# EAGLE library part OPAMP (library QuantumOptics)
Op Amp, generic, pick the right package.
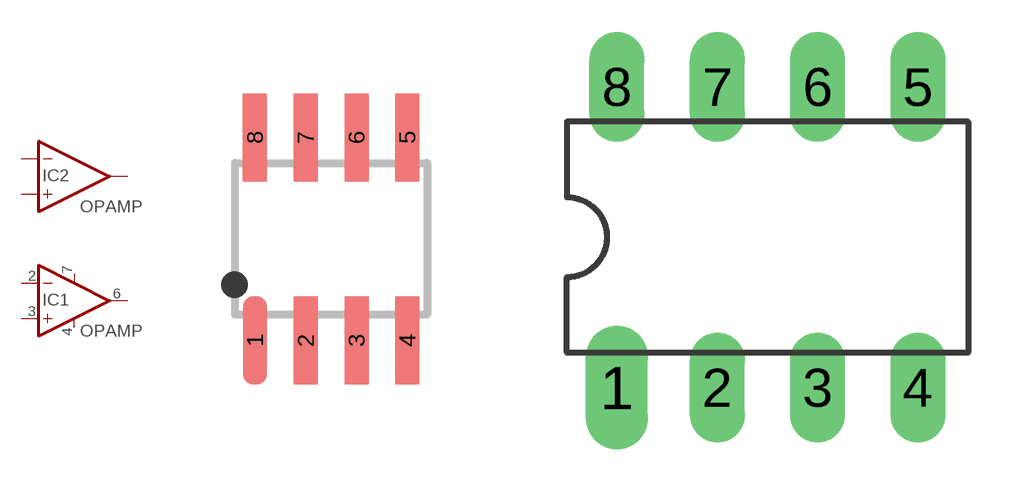
[diagram p51: symbol with the pads of SOIC-8; footprints SOIC-8, DIL08]

Designator prefix IC; gates 1=OPAMP G$2=PWR+- 2=OPAMP

## OPAMP-SO8  [SOIC-8]
2  1:-IN  in
3  1:+IN  in
4  G$2:V-
6  1:OUT  out
7  G$2:V+

## OPAMP  [DIL08]
1  1:OUT  out
2  1:-IN  in
3  1:+IN  in
4  G$2:V-
5  2:+IN  in
6  2:-IN  in
7  2:OUT  out
8  G$2:V+

## Footprint SOIC-8 (pad centres in mm)
SOIC-8 (a.k.a. SO-8), pads on 0.050" x 0.200" c-c spacing.
smd 0.6 x 2.2: 1 -1.27,-2.54; 2 0,-2.54; 3 1.27,-2.54; 4 2.54,-2.54; 5 2.54,2.54; 6 1.27,2.54; 7 0,2.54; 8 -1.27,2.54

## Footprint DIL08 (pad centres in mm)
Dual In Line Package
drill 0.889 pad 1.575 long: 1 -3.81,-3.81
drill 0.889 long: 2 -1.27,-3.81; 3 1.27,-3.81; 4 3.81,-3.81; 5 3.81,3.81; 6 1.27,3.81; 7 -1.27,3.81; 8 -3.81,3.81